# Altium schematic symbol library SCH - MCU - NUVOTON - NUVOTON NANO103LD3AE.SchLib: 1 symbol
Pins are listed as number, name and electrical type; pins without a type are passive.

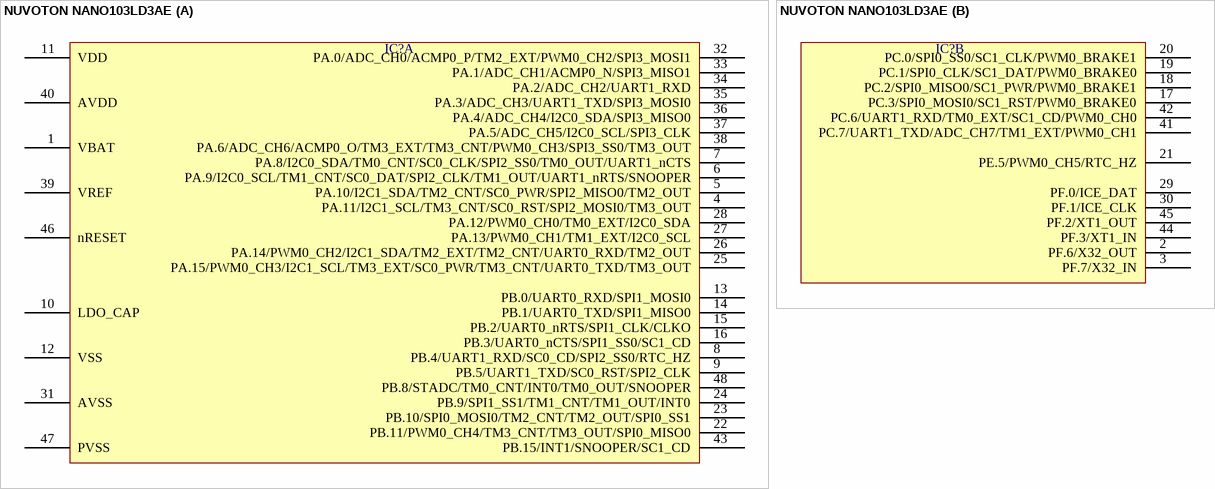
[diagram p0: symbol NUVOTON NANO103LD3AE]

## NUVOTON NANO103LD3AE
designator IC?  (value not drawn)
part A pins: 1 VBAT, 4 PA.11/I2C1_SCL/TM3_CNT/SC0_RST/SPI2_MOSI0/TM3_OUT, 5 PA.10/I2C1_SDA/TM2_CNT/SC0_PWR/SPI2_MISO0/TM2_OUT, 6 PA.9/I2C0_SCL/TM1_CNT/SC0_DAT/SPI2_CLK/TM1_OUT/UART1_nRTS/SNOOPER, 7 PA.8/I2C0_SDA/TM0_CNT/SC0_CLK/SPI2_SS0/TM0_OUT/UART1_nCTS, 8 PB.4/UART1_RXD/SC0_CD/SPI2_SS0/RTC_HZ, 9 PB.5/UART1_TXD/SC0_RST/SPI2_CLK, 10 LDO_CAP, 11 VDD, 12 VSS, 13 PB.0/UART0_RXD/SPI1_MOSI0, 14 PB.1/UART0_TXD/SPI1_MISO0, 15 PB.2/UART0_nRTS/SPI1_CLK/CLKO, 16 PB.3/UART0_nCTS/SPI1_SS0/SC1_CD, 22 PB.11/PWM0_CH4/TM3_CNT/TM3_OUT/SPI0_MISO0, 23 PB.10/SPI0_MOSI0/TM2_CNT/TM2_OUT/SPI0_SS1, 24 PB.9/SPI1_SS1/TM1_CNT/TM1_OUT/INT0, 25 PA.15/PWM0_CH3/I2C1_SCL/TM3_EXT/SC0_PWR/TM3_CNT/UART0_TXD/TM3_OUT, 26 PA.14/PWM0_CH2/I2C1_SDA/TM2_EXT/TM2_CNT/UART0_RXD/TM2_OUT, 27 PA.13/PWM0_CH1/TM1_EXT/I2C0_SCL, 28 PA.12/PWM0_CH0/TM0_EXT/I2C0_SDA, 31 AVSS, 32 PA.0/ADC_CH0/ACMP0_P/TM2_EXT/PWM0_CH2/SPI3_MOSI1, 33 PA.1/ADC_CH1/ACMP0_N/SPI3_MISO1, 34 PA.2/ADC_CH2/UART1_RXD, 35 PA.3/ADC_CH3/UART1_TXD/SPI3_MOSI0, 36 PA.4/ADC_CH4/I2C0_SDA/SPI3_MISO0, 37 PA.5/ADC_CH5/I2C0_SCL/SPI3_CLK, 38 PA.6/ADC_CH6/ACMP0_O/TM3_EXT/TM3_CNT/PWM0_CH3/SPI3_SS0/TM3_OUT, 39 VREF, 40 AVDD, 43 PB.15/INT1/SNOOPER/SC1_CD, 46 nRESET, 47 PVSS, 48 PB.8/STADC/TM0_CNT/INT0/TM0_OUT/SNOOPER
part B pins: 2 PF.6/X32_OUT, 3 PF.7/X32_IN, 17 PC.3/SPI0_MOSI0/SC1_RST/PWM0_BRAKE0, 18 PC.2/SPI0_MISO0/SC1_PWR/PWM0_BRAKE1, 19 PC.1/SPI0_CLK/SC1_DAT/PWM0_BRAKE0, 20 PC.0/SPI0_SS0/SC1_CLK/PWM0_BRAKE1, 21 PE.5/PWM0_CH5/RTC_HZ, 29 PF.0/ICE_DAT, 30 PF.1/ICE_CLK, 41 PC.7/UART1_TXD/ADC_CH7/TM1_EXT/PWM0_CH1, 42 PC.6/UART1_RXD/TM0_EXT/SC1_CD/PWM0_CH0, 44 PF.3/XT1_IN, 45 PF.2/XT1_OUT